# Altium integrated library Xilinx Spartan-IIE.IntLib: 126 symbols (part 17 of 22)
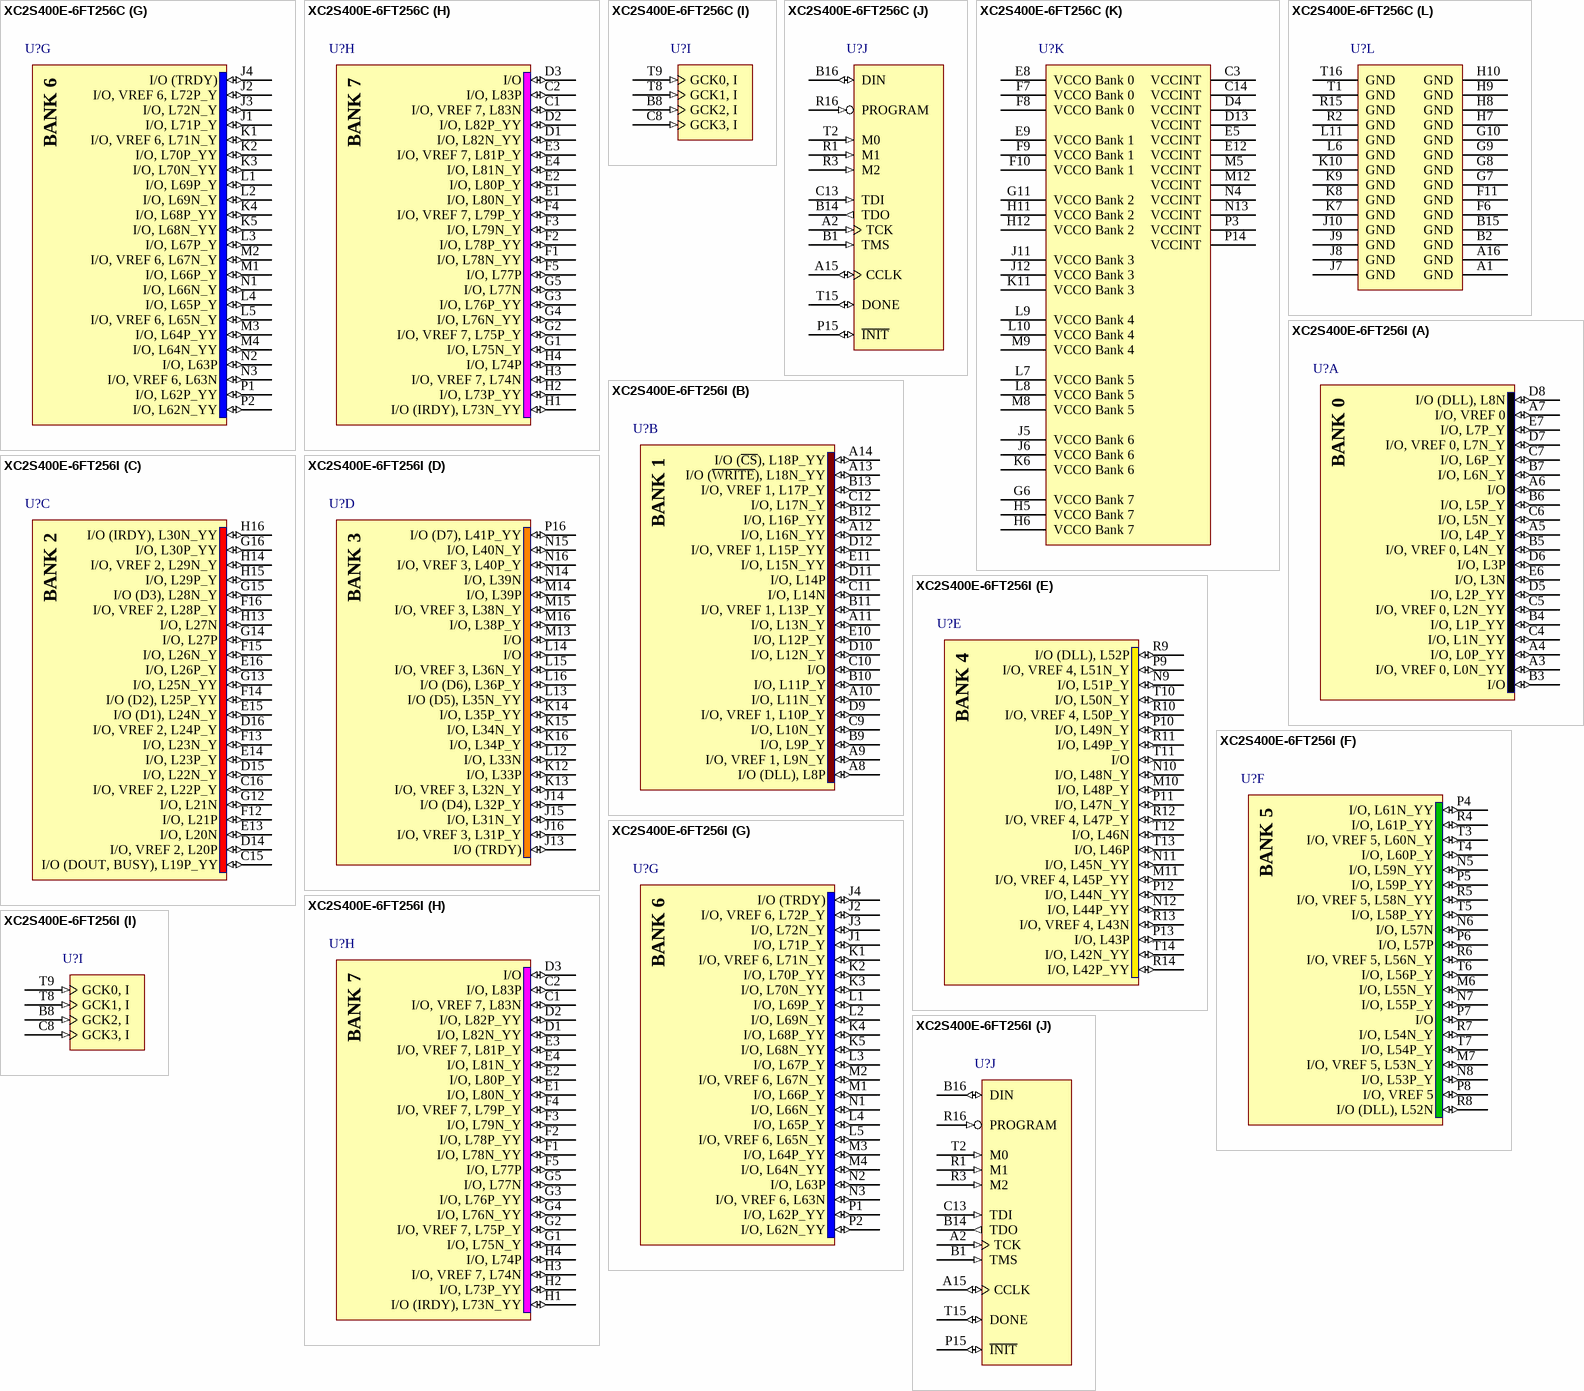
[diagram p133: symbols XC2S400E-6FT256C to XC2S400E-6FT256I]

## XC2S400E-6FT256C
designator U?
Spartan-IIE 1.8V FPGA, 256-Ball FTBGA, Standard Performance, Commercial Grade; Published: 17-Jan-2003; LatestRevisionDate: 13-Apr-2006; LatestRevisionNote: IPC-7351 Footprint Added.; DatasheetVersion: 28-Jul-2004; PackageVersion: ver1.2.1, Mar-2005; PackageReference: FT256; Publisher: Altium Limited; PackageDescription: 256-Ball Fine Pitch Thin Ball Grid Array 1.00 mm Pitch (FT256); Code_JEDEC: MS-034-AAF-1*; ComponentLink1Description: Manufacturer Link; ComponentLink1URL: http://www.xilinx.com/products/silicon_solutions/fpgas/spartan_series/spartan2e_fpgas/index.htm; ComponentLink2Description: Datasheet; ComponentLink2URL: http://direct.xilinx.com/bvdocs/publications/ds077.pdf
footprint FT256 (BGA, 256-Leads, Body 17x17mm, Pitch 1mm)
3D model XC2S400E-FT256 (256-Ball Fine Pitch Thin Ball Grid Array 1.00 mm Pitch (FT256))
signal-integrity model XC2S400E_FT256 (Spartan-IIE)
part A pins: A3 I/O, VREF 0, L0N_YY (io), A4 I/O, L0P_YY (io), A5 I/O, L4P_Y (io), A6 I/O (io), A7 I/O, VREF 0 (io), B3 I/O (io), B4 I/O, L1P_YY (io), B5 I/O, VREF 0, L4N_Y (io), B6 I/O, L5P_Y (io), B7 I/O, L6N_Y (io), C4 I/O, L1N_YY (io), C5 I/O, VREF 0, L2N_YY (io), C6 I/O, L5N_Y (io), C7 I/O, L6P_Y (io), D5 I/O, L2P_YY (io), D6 I/O, L3P (io), D7 I/O, VREF 0, L7N_Y (io), D8 I/O (DLL), L8N (io), E6 I/O, L3N (io), E7 I/O, L7P_Y (io)
part B pins: A8 I/O (DLL), L8P (io), A9 I/O, VREF 1, L9N_Y (io), A10 I/O, L11N_Y (io), A11 I/O, L13N_Y (io), A12 I/O, L16N_YY (io), A13 I/O (~{WRITE}), L18N_YY (io), A14 I/O (~{CS}), L18P_YY (io), B9 I/O, L9P_Y (io), B10 I/O, L11P_Y (io), B11 I/O, VREF 1, L13P_Y (io), B12 I/O, L16P_YY (io), B13 I/O, VREF 1, L17P_Y (io), C9 I/O, L10N_Y (io), C10 I/O (io), C11 I/O, L14N (io), C12 I/O, L17N_Y (io), D9 I/O, VREF 1, L10P_Y (io), D10 I/O, L12N_Y (io), D11 I/O, L14P (io), D12 I/O, VREF 1, L15P_YY (io), E10 I/O, L12P_Y (io), E11 I/O, L15N_YY (io)
part C pins: C15 I/O (DOUT, BUSY), L19P_YY (io), C16 I/O, VREF 2, L22P_Y (io), D14 I/O, VREF 2, L20P (io), D15 I/O, L22N_Y (io), D16 I/O, VREF 2, L24P_Y (io), E13 I/O, L20N (io), E14 I/O, L23P_Y (io), E15 I/O (D1), L24N_Y (io), E16 I/O, L26P_Y (io), F12 I/O, L21P (io), F13 I/O, L23N_Y (io), F14 I/O (D2), L25P_YY (io), F15 I/O, L26N_Y (io), F16 I/O, VREF 2, L28P_Y (io), G12 I/O, L21N (io), G13 I/O, L25N_YY (io), G14 I/O, L27P (io), G15 I/O (D3), L28N_Y (io), G16 I/O, L30P_YY (io), H13 I/O, L27N (io), H14 I/O, VREF 2, L29N_Y (io), H15 I/O, L29P_Y (io), H16 I/O (IRDY), L30N_YY (io)
part D pins: J13 I/O (TRDY) (io), J14 I/O (D4), L32P_Y (io), J15 I/O, L31N_Y (io), J16 I/O, VREF 3, L31P_Y (io), K12 I/O, L33P (io), K13 I/O, VREF 3, L32N_Y (io), K14 I/O, L35P_YY (io), K15 I/O, L34N_Y (io), K16 I/O, L34P_Y (io), L12 I/O, L33N (io), L13 I/O (D5), L35N_YY (io), L14 I/O (io), L15 I/O, VREF 3, L36N_Y (io), L16 I/O (D6), L36P_Y (io), M13 I/O (io), M14 I/O, L39P (io), M15 I/O, VREF 3, L38N_Y (io), M16 I/O, L38P_Y (io), N14 I/O, L39N (io), N15 I/O, L40N_Y (io), N16 I/O, VREF 3, L40P_Y (io), P16 I/O (D7), L41P_YY (io)
part E pins: M10 I/O, L48P_Y (io), M11 I/O, VREF 4, L45P_YY (io), N9 I/O, L51P_Y (io), N10 I/O, L48N_Y (io), N11 I/O, L45N_YY (io), N12 I/O, L44P_YY (io), P9 I/O, VREF 4, L51N_Y (io), P10 I/O, L49N_Y (io), P11 I/O, L47N_Y (io), P12 I/O, L44N_YY (io), P13 I/O, L43P (io), R9 I/O (DLL), L52P (io), R10 I/O, VREF 4, L50P_Y (io), R11 I/O, L49P_Y (io), R12 I/O, VREF 4, L47P_Y (io), R13 I/O, VREF 4, L43N (io), R14 I/O, L42P_YY (io), T10 I/O, L50N_Y (io), T11 I/O (io), T12 I/O, L46N (io), T13 I/O, L46P (io), T14 I/O, L42N_YY (io)
part F pins: M6 I/O, L55N_Y (io), M7 I/O, VREF 5, L53N_Y (io), N5 I/O, L59N_YY (io), N6 I/O, L57N (io), N7 I/O, L55P_Y (io), N8 I/O, L53P_Y (io), P4 I/O, L61N_YY (io), P5 I/O, L59P_YY (io), P6 I/O, L57P (io), P7 I/O (io), P8 I/O, VREF 5 (io), R4 I/O, L61P_YY (io), R5 I/O, VREF 5, L58N_YY (io), R6 I/O, VREF 5, L56N_Y (io), R7 I/O, L54N_Y (io), R8 I/O (DLL), L52N (io), T3 I/O, VREF 5, L60N_Y (io), T4 I/O, L60P_Y (io), T5 I/O, L58P_YY (io), T6 I/O, L56P_Y (io), T7 I/O, L54P_Y (io)
part G pins: J1 I/O, L71P_Y (io), J2 I/O, VREF 6, L72P_Y (io), J3 I/O, L72N_Y (io), J4 I/O (TRDY) (io), K1 I/O, VREF 6, L71N_Y (io), K2 I/O, L70P_YY (io), K3 I/O, L70N_YY (io), K4 I/O, L68P_YY (io), K5 I/O, L68N_YY (io), L1 I/O, L69P_Y (io), L2 I/O, L69N_Y (io), L3 I/O, L67P_Y (io), L4 I/O, L65P_Y (io), L5 I/O, VREF 6, L65N_Y (io), M1 I/O, L66P_Y (io), M2 I/O, VREF 6, L67N_Y (io), M3 I/O, L64P_YY (io), M4 I/O, L64N_YY (io), N1 I/O, L66N_Y (io), N2 I/O, L63P (io), N3 I/O, VREF 6, L63N (io), P1 I/O, L62P_YY (io), P2 I/O, L62N_YY (io)
part H pins: C1 I/O, VREF 7, L83N (io), C2 I/O, L83P (io), D1 I/O, L82N_YY (io), D2 I/O, L82P_YY (io), D3 I/O (io), E1 I/O, L80N_Y (io), E2 I/O, L80P_Y (io), E3 I/O, VREF 7, L81P_Y (io), E4 I/O, L81N_Y (io), F1 I/O, L78N_YY (io), F2 I/O, L78P_YY (io), F3 I/O, L79N_Y (io), F4 I/O, VREF 7, L79P_Y (io), F5 I/O, L77P (io), G1 I/O, L75N_Y (io), G2 I/O, VREF 7, L75P_Y (io), G3 I/O, L76P_YY (io), G4 I/O, L76N_YY (io), G5 I/O, L77N (io), H1 I/O (IRDY), L73N_YY (io), H2 I/O, L73P_YY (io), H3 I/O, VREF 7, L74N (io), H4 I/O, L74P (io)
part I pins: B8 GCK2, I (in), C8 GCK3, I (in), T8 GCK1, I (in), T9 GCK0, I (in)
part J pins: A2 TCK (in), A15 CCLK (io), B1 TMS (in), B14 TDO (out), B16 DIN (io) "I/O (DIN, D0), L19N_YY", C13 TDI (in), P15 ~{INIT} (io) "I/O (I\N\I\T\), L41N_YY", R1 M1 (in), R3 M2 (in), R16 PROGRAM (in), T2 M0 (in), T15 DONE (io)
part K pins: C3 VCCINT (power), C14 VCCINT (power), D4 VCCINT (power), D13 VCCINT (power), E5 VCCINT (power), E8 VCCO Bank 0 (power), E9 VCCO Bank 1 (power), E12 VCCINT (power), F7 VCCO Bank 0 (power), F8 VCCO Bank 0 (power), F9 VCCO Bank 1 (power), F10 VCCO Bank 1 (power), G6 VCCO Bank 7 (power), G11 VCCO Bank 2 (power), H5 VCCO Bank 7 (power), H6 VCCO Bank 7 (power), H11 VCCO Bank 2 (power), H12 VCCO Bank 2 (power), J5 VCCO Bank 6 (power), J6 VCCO Bank 6 (power), J11 VCCO Bank 3 (power), J12 VCCO Bank 3 (power), K6 VCCO Bank 6 (power), K11 VCCO Bank 3 (power), L7 VCCO Bank 5 (power), L8 VCCO Bank 5 (power), L9 VCCO Bank 4 (power), L10 VCCO Bank 4 (power), M5 VCCINT (power), M8 VCCO Bank 5 (power), M9 VCCO Bank 4 (power), M12 VCCINT (power), N4 VCCINT (power), N13 VCCINT (power), P3 VCCINT (power), P14 VCCINT (power)
part L pins: A1 GND (power), A16 GND (power), B2 GND (power), B15 GND (power), F6 GND (power), F11 GND (power), G7 GND (power), G8 GND (power), G9 GND (power), G10 GND (power), H7 GND (power), H8 GND (power), H9 GND (power), H10 GND (power), J7 GND (power), J8 GND (power), J9 GND (power), J10 GND (power), K7 GND (power), K8 GND (power), K9 GND (power), K10 GND (power), L6 GND (power), L11 GND (power), R2 GND (power), R15 GND (power), T1 GND (power), T16 GND (power)
part A text: BANK 0
part B text: BANK 1
part C text: BANK 2
part D text: BANK 3
part E text: BANK 4
part F text: BANK 5
part G text: BANK 6
part H text: BANK 7

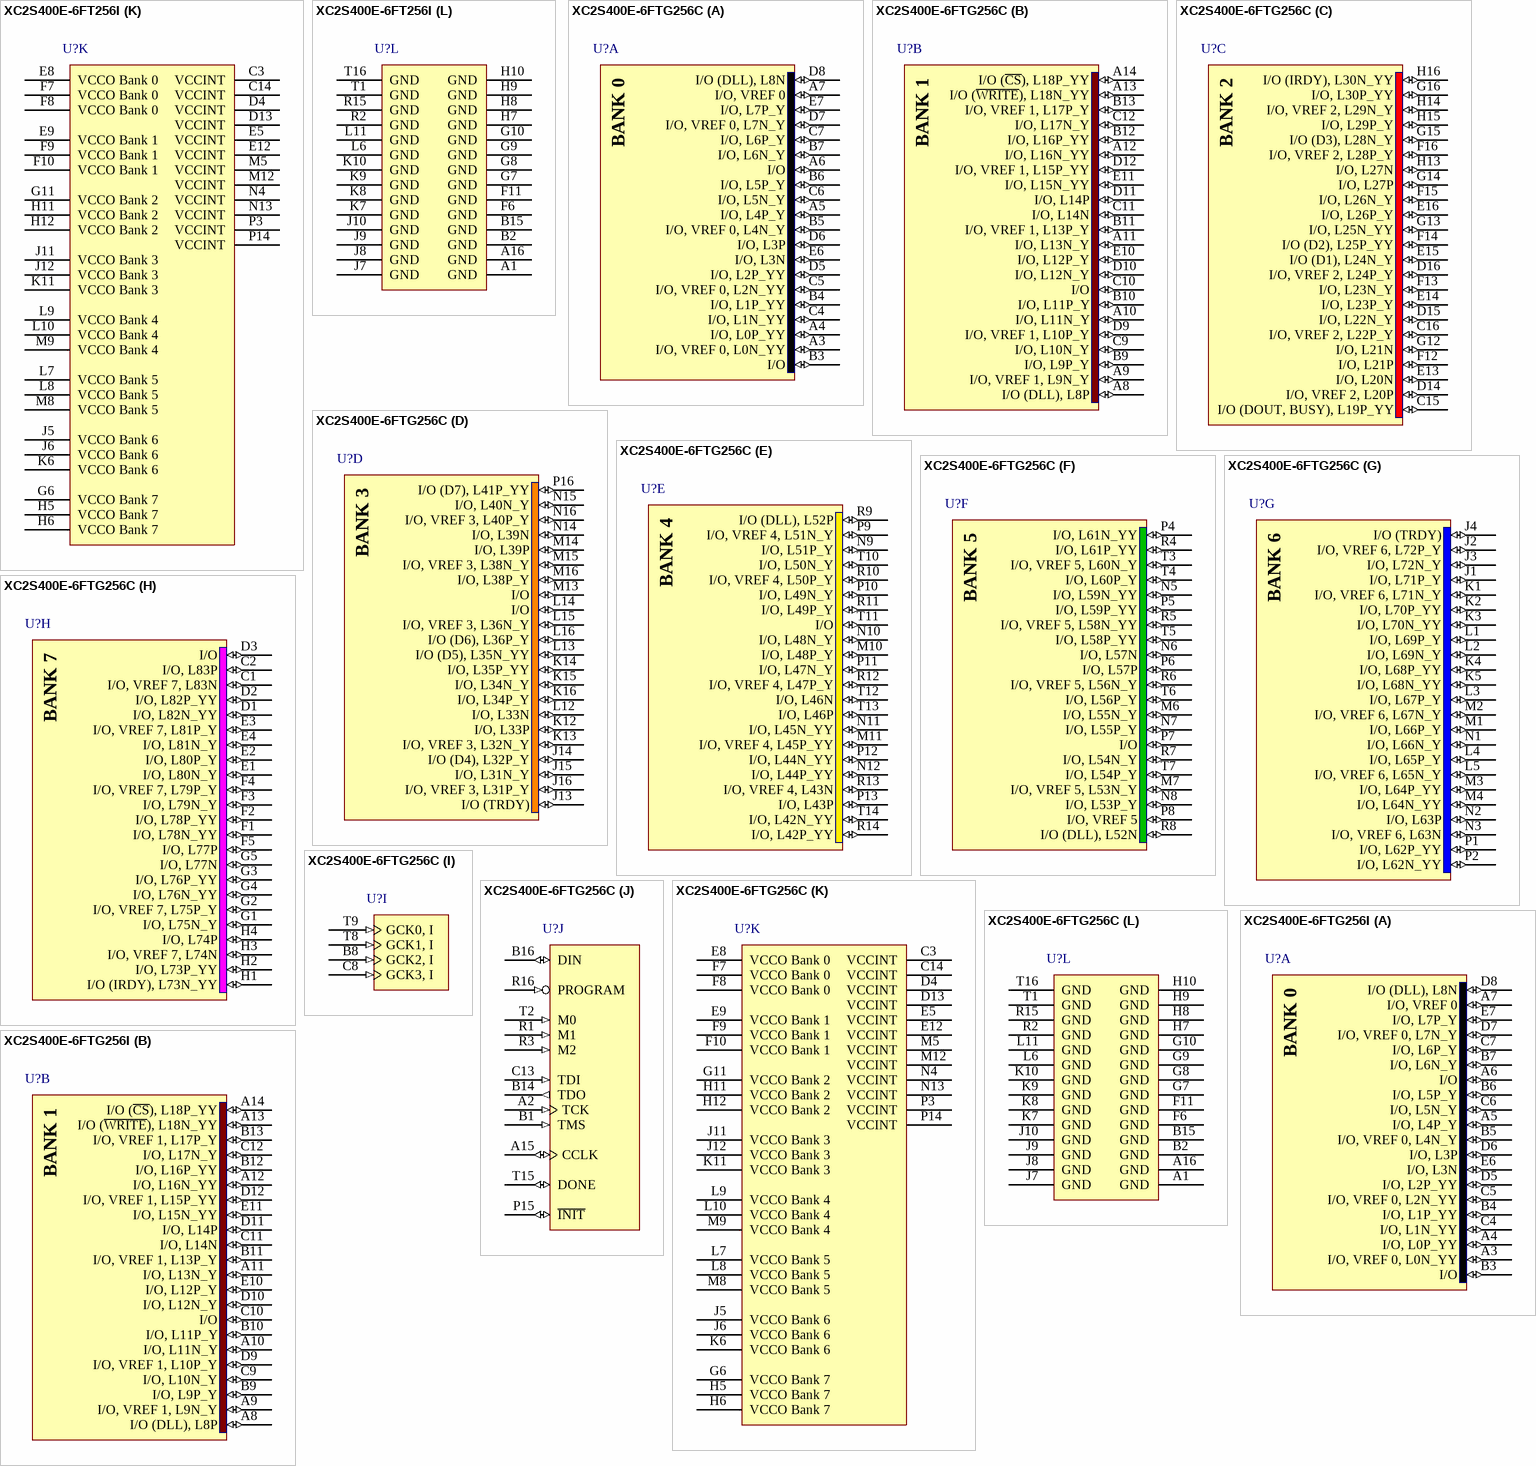
[diagram p89: symbols XC2S400E-6FT256I to XC2S400E-6FTG256I]

## XC2S400E-6FT256I
designator U?
Spartan-IIE 1.8V FPGA, 256-Ball FTBGA, Standard Performance, Industrial Grade; Published: 17-Jan-2003; LatestRevisionDate: 13-Apr-2006; LatestRevisionNote: IPC-7351 Footprint Added.; DatasheetVersion: 28-Jul-2004; PackageVersion: ver1.2.1, Mar-2005; PackageReference: FT256; Publisher: Altium Limited; PackageDescription: 256-Ball Fine Pitch Thin Ball Grid Array 1.00 mm Pitch (FT256); Code_JEDEC: MS-034-AAF-1*; ComponentLink1Description: Manufacturer Link; ComponentLink1URL: http://www.xilinx.com/products/silicon_solutions/fpgas/spartan_series/spartan2e_fpgas/index.htm; ComponentLink2Description: Datasheet; ComponentLink2URL: http://direct.xilinx.com/bvdocs/publications/ds077.pdf
footprint FT256 (BGA, 256-Leads, Body 17x17mm, Pitch 1mm)
3D model XC2S400E-FT256 (256-Ball Fine Pitch Thin Ball Grid Array 1.00 mm Pitch (FT256))
signal-integrity model XC2S400E_FT256 (Spartan-IIE)
part A pins: A3 I/O, VREF 0, L0N_YY (io), A4 I/O, L0P_YY (io), A5 I/O, L4P_Y (io), A6 I/O (io), A7 I/O, VREF 0 (io), B3 I/O (io), B4 I/O, L1P_YY (io), B5 I/O, VREF 0, L4N_Y (io), B6 I/O, L5P_Y (io), B7 I/O, L6N_Y (io), C4 I/O, L1N_YY (io), C5 I/O, VREF 0, L2N_YY (io), C6 I/O, L5N_Y (io), C7 I/O, L6P_Y (io), D5 I/O, L2P_YY (io), D6 I/O, L3P (io), D7 I/O, VREF 0, L7N_Y (io), D8 I/O (DLL), L8N (io), E6 I/O, L3N (io), E7 I/O, L7P_Y (io)
part B pins: A8 I/O (DLL), L8P (io), A9 I/O, VREF 1, L9N_Y (io), A10 I/O, L11N_Y (io), A11 I/O, L13N_Y (io), A12 I/O, L16N_YY (io), A13 I/O (~{WRITE}), L18N_YY (io), A14 I/O (~{CS}), L18P_YY (io), B9 I/O, L9P_Y (io), B10 I/O, L11P_Y (io), B11 I/O, VREF 1, L13P_Y (io), B12 I/O, L16P_YY (io), B13 I/O, VREF 1, L17P_Y (io), C9 I/O, L10N_Y (io), C10 I/O (io), C11 I/O, L14N (io), C12 I/O, L17N_Y (io), D9 I/O, VREF 1, L10P_Y (io), D10 I/O, L12N_Y (io), D11 I/O, L14P (io), D12 I/O, VREF 1, L15P_YY (io), E10 I/O, L12P_Y (io), E11 I/O, L15N_YY (io)
part C pins: C15 I/O (DOUT, BUSY), L19P_YY (io), C16 I/O, VREF 2, L22P_Y (io), D14 I/O, VREF 2, L20P (io), D15 I/O, L22N_Y (io), D16 I/O, VREF 2, L24P_Y (io), E13 I/O, L20N (io), E14 I/O, L23P_Y (io), E15 I/O (D1), L24N_Y (io), E16 I/O, L26P_Y (io), F12 I/O, L21P (io), F13 I/O, L23N_Y (io), F14 I/O (D2), L25P_YY (io), F15 I/O, L26N_Y (io), F16 I/O, VREF 2, L28P_Y (io), G12 I/O, L21N (io), G13 I/O, L25N_YY (io), G14 I/O, L27P (io), G15 I/O (D3), L28N_Y (io), G16 I/O, L30P_YY (io), H13 I/O, L27N (io), H14 I/O, VREF 2, L29N_Y (io), H15 I/O, L29P_Y (io), H16 I/O (IRDY), L30N_YY (io)
part D pins: J13 I/O (TRDY) (io), J14 I/O (D4), L32P_Y (io), J15 I/O, L31N_Y (io), J16 I/O, VREF 3, L31P_Y (io), K12 I/O, L33P (io), K13 I/O, VREF 3, L32N_Y (io), K14 I/O, L35P_YY (io), K15 I/O, L34N_Y (io), K16 I/O, L34P_Y (io), L12 I/O, L33N (io), L13 I/O (D5), L35N_YY (io), L14 I/O (io), L15 I/O, VREF 3, L36N_Y (io), L16 I/O (D6), L36P_Y (io), M13 I/O (io), M14 I/O, L39P (io), M15 I/O, VREF 3, L38N_Y (io), M16 I/O, L38P_Y (io), N14 I/O, L39N (io), N15 I/O, L40N_Y (io), N16 I/O, VREF 3, L40P_Y (io), P16 I/O (D7), L41P_YY (io)
part E pins: M10 I/O, L48P_Y (io), M11 I/O, VREF 4, L45P_YY (io), N9 I/O, L51P_Y (io), N10 I/O, L48N_Y (io), N11 I/O, L45N_YY (io), N12 I/O, L44P_YY (io), P9 I/O, VREF 4, L51N_Y (io), P10 I/O, L49N_Y (io), P11 I/O, L47N_Y (io), P12 I/O, L44N_YY (io), P13 I/O, L43P (io), R9 I/O (DLL), L52P (io), R10 I/O, VREF 4, L50P_Y (io), R11 I/O, L49P_Y (io), R12 I/O, VREF 4, L47P_Y (io), R13 I/O, VREF 4, L43N (io), R14 I/O, L42P_YY (io), T10 I/O, L50N_Y (io), T11 I/O (io), T12 I/O, L46N (io), T13 I/O, L46P (io), T14 I/O, L42N_YY (io)
part F pins: M6 I/O, L55N_Y (io), M7 I/O, VREF 5, L53N_Y (io), N5 I/O, L59N_YY (io), N6 I/O, L57N (io), N7 I/O, L55P_Y (io), N8 I/O, L53P_Y (io), P4 I/O, L61N_YY (io), P5 I/O, L59P_YY (io), P6 I/O, L57P (io), P7 I/O (io), P8 I/O, VREF 5 (io), R4 I/O, L61P_YY (io), R5 I/O, VREF 5, L58N_YY (io), R6 I/O, VREF 5, L56N_Y (io), R7 I/O, L54N_Y (io), R8 I/O (DLL), L52N (io), T3 I/O, VREF 5, L60N_Y (io), T4 I/O, L60P_Y (io), T5 I/O, L58P_YY (io), T6 I/O, L56P_Y (io), T7 I/O, L54P_Y (io)
part G pins: J1 I/O, L71P_Y (io), J2 I/O, VREF 6, L72P_Y (io), J3 I/O, L72N_Y (io), J4 I/O (TRDY) (io), K1 I/O, VREF 6, L71N_Y (io), K2 I/O, L70P_YY (io), K3 I/O, L70N_YY (io), K4 I/O, L68P_YY (io), K5 I/O, L68N_YY (io), L1 I/O, L69P_Y (io), L2 I/O, L69N_Y (io), L3 I/O, L67P_Y (io), L4 I/O, L65P_Y (io), L5 I/O, VREF 6, L65N_Y (io), M1 I/O, L66P_Y (io), M2 I/O, VREF 6, L67N_Y (io), M3 I/O, L64P_YY (io), M4 I/O, L64N_YY (io), N1 I/O, L66N_Y (io), N2 I/O, L63P (io), N3 I/O, VREF 6, L63N (io), P1 I/O, L62P_YY (io), P2 I/O, L62N_YY (io)
part H pins: C1 I/O, VREF 7, L83N (io), C2 I/O, L83P (io), D1 I/O, L82N_YY (io), D2 I/O, L82P_YY (io), D3 I/O (io), E1 I/O, L80N_Y (io), E2 I/O, L80P_Y (io), E3 I/O, VREF 7, L81P_Y (io), E4 I/O, L81N_Y (io), F1 I/O, L78N_YY (io), F2 I/O, L78P_YY (io), F3 I/O, L79N_Y (io), F4 I/O, VREF 7, L79P_Y (io), F5 I/O, L77P (io), G1 I/O, L75N_Y (io), G2 I/O, VREF 7, L75P_Y (io), G3 I/O, L76P_YY (io), G4 I/O, L76N_YY (io), G5 I/O, L77N (io), H1 I/O (IRDY), L73N_YY (io), H2 I/O, L73P_YY (io), H3 I/O, VREF 7, L74N (io), H4 I/O, L74P (io)
part I pins: B8 GCK2, I (in), C8 GCK3, I (in), T8 GCK1, I (in), T9 GCK0, I (in)
part J pins: A2 TCK (in), A15 CCLK (io), B1 TMS (in), B14 TDO (out), B16 DIN (io) "I/O (DIN, D0), L19N_YY", C13 TDI (in), P15 ~{INIT} (io) "I/O (I\N\I\T\), L41N_YY", R1 M1 (in), R3 M2 (in), R16 PROGRAM (in), T2 M0 (in), T15 DONE (io)
part K pins: C3 VCCINT (power), C14 VCCINT (power), D4 VCCINT (power), D13 VCCINT (power), E5 VCCINT (power), E8 VCCO Bank 0 (power), E9 VCCO Bank 1 (power), E12 VCCINT (power), F7 VCCO Bank 0 (power), F8 VCCO Bank 0 (power), F9 VCCO Bank 1 (power), F10 VCCO Bank 1 (power), G6 VCCO Bank 7 (power), G11 VCCO Bank 2 (power), H5 VCCO Bank 7 (power), H6 VCCO Bank 7 (power), H11 VCCO Bank 2 (power), H12 VCCO Bank 2 (power), J5 VCCO Bank 6 (power), J6 VCCO Bank 6 (power), J11 VCCO Bank 3 (power), J12 VCCO Bank 3 (power), K6 VCCO Bank 6 (power), K11 VCCO Bank 3 (power), L7 VCCO Bank 5 (power), L8 VCCO Bank 5 (power), L9 VCCO Bank 4 (power), L10 VCCO Bank 4 (power), M5 VCCINT (power), M8 VCCO Bank 5 (power), M9 VCCO Bank 4 (power), M12 VCCINT (power), N4 VCCINT (power), N13 VCCINT (power), P3 VCCINT (power), P14 VCCINT (power)
part L pins: A1 GND (power), A16 GND (power), B2 GND (power), B15 GND (power), F6 GND (power), F11 GND (power), G7 GND (power), G8 GND (power), G9 GND (power), G10 GND (power), H7 GND (power), H8 GND (power), H9 GND (power), H10 GND (power), J7 GND (power), J8 GND (power), J9 GND (power), J10 GND (power), K7 GND (power), K8 GND (power), K9 GND (power), K10 GND (power), L6 GND (power), L11 GND (power), R2 GND (power), R15 GND (power), T1 GND (power), T16 GND (power)
part A text: BANK 0
part B text: BANK 1
part C text: BANK 2
part D text: BANK 3
part E text: BANK 4
part F text: BANK 5
part G text: BANK 6
part H text: BANK 7

## XC2S400E-6FTG256C
designator U?
Spartan-IIE 1.8V FPGA, 256-Ball FTBGA, Standard Performance, Commercial Grade, Pb-Free; Published: 2-Mar-2006; DatasheetVersion: 28-Jul-2004; PackageVersion: ver1.2.1, Mar-2005; PackageReference: FTG256; Publisher: Altium Limited; PackageDescription: 256-Ball Fine Pitch Thin Ball Grid Array 1.00 mm Pitch (FTG256) - Pb-Free; Code_JEDEC: MS-034-AAF-1*; ComponentLink1Description: Manufacturer Link; ComponentLink1URL: http://www.xilinx.com/products/silicon_solutions/fpgas/spartan_series/spartan2e_fpgas/index.htm; ComponentLink2Description: Datasheet; ComponentLink2URL: http://direct.xilinx.com/bvdocs/publications/ds077.pdf
footprint FTG256 (BGA, 256-Leads, Body 17x17mm, Pitch 1mm)
3D model XC2S400E-FT256 (256-Ball Fine Pitch Thin Ball Grid Array 1.00 mm Pitch (FTG256) - Pb-Free)
signal-integrity model XC2S400E_FTG256 (Spartan-IIE)
part A pins: A3 I/O, VREF 0, L0N_YY (io), A4 I/O, L0P_YY (io), A5 I/O, L4P_Y (io), A6 I/O (io), A7 I/O, VREF 0 (io), B3 I/O (io), B4 I/O, L1P_YY (io), B5 I/O, VREF 0, L4N_Y (io), B6 I/O, L5P_Y (io), B7 I/O, L6N_Y (io), C4 I/O, L1N_YY (io), C5 I/O, VREF 0, L2N_YY (io), C6 I/O, L5N_Y (io), C7 I/O, L6P_Y (io), D5 I/O, L2P_YY (io), D6 I/O, L3P (io), D7 I/O, VREF 0, L7N_Y (io), D8 I/O (DLL), L8N (io), E6 I/O, L3N (io), E7 I/O, L7P_Y (io)
part B pins: A8 I/O (DLL), L8P (io), A9 I/O, VREF 1, L9N_Y (io), A10 I/O, L11N_Y (io), A11 I/O, L13N_Y (io), A12 I/O, L16N_YY (io), A13 I/O (~{WRITE}), L18N_YY (io), A14 I/O (~{CS}), L18P_YY (io), B9 I/O, L9P_Y (io), B10 I/O, L11P_Y (io), B11 I/O, VREF 1, L13P_Y (io), B12 I/O, L16P_YY (io), B13 I/O, VREF 1, L17P_Y (io), C9 I/O, L10N_Y (io), C10 I/O (io), C11 I/O, L14N (io), C12 I/O, L17N_Y (io), D9 I/O, VREF 1, L10P_Y (io), D10 I/O, L12N_Y (io), D11 I/O, L14P (io), D12 I/O, VREF 1, L15P_YY (io), E10 I/O, L12P_Y (io), E11 I/O, L15N_YY (io)
part C pins: C15 I/O (DOUT, BUSY), L19P_YY (io), C16 I/O, VREF 2, L22P_Y (io), D14 I/O, VREF 2, L20P (io), D15 I/O, L22N_Y (io), D16 I/O, VREF 2, L24P_Y (io), E13 I/O, L20N (io), E14 I/O, L23P_Y (io), E15 I/O (D1), L24N_Y (io), E16 I/O, L26P_Y (io), F12 I/O, L21P (io), F13 I/O, L23N_Y (io), F14 I/O (D2), L25P_YY (io), F15 I/O, L26N_Y (io), F16 I/O, VREF 2, L28P_Y (io), G12 I/O, L21N (io), G13 I/O, L25N_YY (io), G14 I/O, L27P (io), G15 I/O (D3), L28N_Y (io), G16 I/O, L30P_YY (io), H13 I/O, L27N (io), H14 I/O, VREF 2, L29N_Y (io), H15 I/O, L29P_Y (io), H16 I/O (IRDY), L30N_YY (io)
part D pins: J13 I/O (TRDY) (io), J14 I/O (D4), L32P_Y (io), J15 I/O, L31N_Y (io), J16 I/O, VREF 3, L31P_Y (io), K12 I/O, L33P (io), K13 I/O, VREF 3, L32N_Y (io), K14 I/O, L35P_YY (io), K15 I/O, L34N_Y (io), K16 I/O, L34P_Y (io), L12 I/O, L33N (io), L13 I/O (D5), L35N_YY (io), L14 I/O (io), L15 I/O, VREF 3, L36N_Y (io), L16 I/O (D6), L36P_Y (io), M13 I/O (io), M14 I/O, L39P (io), M15 I/O, VREF 3, L38N_Y (io), M16 I/O, L38P_Y (io), N14 I/O, L39N (io), N15 I/O, L40N_Y (io), N16 I/O, VREF 3, L40P_Y (io), P16 I/O (D7), L41P_YY (io)
part E pins: M10 I/O, L48P_Y (io), M11 I/O, VREF 4, L45P_YY (io), N9 I/O, L51P_Y (io), N10 I/O, L48N_Y (io), N11 I/O, L45N_YY (io), N12 I/O, L44P_YY (io), P9 I/O, VREF 4, L51N_Y (io), P10 I/O, L49N_Y (io), P11 I/O, L47N_Y (io), P12 I/O, L44N_YY (io), P13 I/O, L43P (io), R9 I/O (DLL), L52P (io), R10 I/O, VREF 4, L50P_Y (io), R11 I/O, L49P_Y (io), R12 I/O, VREF 4, L47P_Y (io), R13 I/O, VREF 4, L43N (io), R14 I/O, L42P_YY (io), T10 I/O, L50N_Y (io), T11 I/O (io), T12 I/O, L46N (io), T13 I/O, L46P (io), T14 I/O, L42N_YY (io)
part F pins: M6 I/O, L55N_Y (io), M7 I/O, VREF 5, L53N_Y (io), N5 I/O, L59N_YY (io), N6 I/O, L57N (io), N7 I/O, L55P_Y (io), N8 I/O, L53P_Y (io), P4 I/O, L61N_YY (io), P5 I/O, L59P_YY (io), P6 I/O, L57P (io), P7 I/O (io), P8 I/O, VREF 5 (io), R4 I/O, L61P_YY (io), R5 I/O, VREF 5, L58N_YY (io), R6 I/O, VREF 5, L56N_Y (io), R7 I/O, L54N_Y (io), R8 I/O (DLL), L52N (io), T3 I/O, VREF 5, L60N_Y (io), T4 I/O, L60P_Y (io), T5 I/O, L58P_YY (io), T6 I/O, L56P_Y (io), T7 I/O, L54P_Y (io)
part G pins: J1 I/O, L71P_Y (io), J2 I/O, VREF 6, L72P_Y (io), J3 I/O, L72N_Y (io), J4 I/O (TRDY) (io), K1 I/O, VREF 6, L71N_Y (io), K2 I/O, L70P_YY (io), K3 I/O, L70N_YY (io), K4 I/O, L68P_YY (io), K5 I/O, L68N_YY (io), L1 I/O, L69P_Y (io), L2 I/O, L69N_Y (io), L3 I/O, L67P_Y (io), L4 I/O, L65P_Y (io), L5 I/O, VREF 6, L65N_Y (io), M1 I/O, L66P_Y (io), M2 I/O, VREF 6, L67N_Y (io), M3 I/O, L64P_YY (io), M4 I/O, L64N_YY (io), N1 I/O, L66N_Y (io), N2 I/O, L63P (io), N3 I/O, VREF 6, L63N (io), P1 I/O, L62P_YY (io), P2 I/O, L62N_YY (io)
part H pins: C1 I/O, VREF 7, L83N (io), C2 I/O, L83P (io), D1 I/O, L82N_YY (io), D2 I/O, L82P_YY (io), D3 I/O (io), E1 I/O, L80N_Y (io), E2 I/O, L80P_Y (io), E3 I/O, VREF 7, L81P_Y (io), E4 I/O, L81N_Y (io), F1 I/O, L78N_YY (io), F2 I/O, L78P_YY (io), F3 I/O, L79N_Y (io), F4 I/O, VREF 7, L79P_Y (io), F5 I/O, L77P (io), G1 I/O, L75N_Y (io), G2 I/O, VREF 7, L75P_Y (io), G3 I/O, L76P_YY (io), G4 I/O, L76N_YY (io), G5 I/O, L77N (io), H1 I/O (IRDY), L73N_YY (io), H2 I/O, L73P_YY (io), H3 I/O, VREF 7, L74N (io), H4 I/O, L74P (io)
part I pins: B8 GCK2, I (in), C8 GCK3, I (in), T8 GCK1, I (in), T9 GCK0, I (in)
part J pins: A2 TCK (in), A15 CCLK (io), B1 TMS (in), B14 TDO (out), B16 DIN (io) "I/O (DIN, D0), L19N_YY", C13 TDI (in), P15 ~{INIT} (io) "I/O (I\N\I\T\), L41N_YY", R1 M1 (in), R3 M2 (in), R16 PROGRAM (in), T2 M0 (in), T15 DONE (io)
part K pins: C3 VCCINT (power), C14 VCCINT (power), D4 VCCINT (power), D13 VCCINT (power), E5 VCCINT (power), E8 VCCO Bank 0 (power), E9 VCCO Bank 1 (power), E12 VCCINT (power), F7 VCCO Bank 0 (power), F8 VCCO Bank 0 (power), F9 VCCO Bank 1 (power), F10 VCCO Bank 1 (power), G6 VCCO Bank 7 (power), G11 VCCO Bank 2 (power), H5 VCCO Bank 7 (power), H6 VCCO Bank 7 (power), H11 VCCO Bank 2 (power), H12 VCCO Bank 2 (power), J5 VCCO Bank 6 (power), J6 VCCO Bank 6 (power), J11 VCCO Bank 3 (power), J12 VCCO Bank 3 (power), K6 VCCO Bank 6 (power), K11 VCCO Bank 3 (power), L7 VCCO Bank 5 (power), L8 VCCO Bank 5 (power), L9 VCCO Bank 4 (power), L10 VCCO Bank 4 (power), M5 VCCINT (power), M8 VCCO Bank 5 (power), M9 VCCO Bank 4 (power), M12 VCCINT (power), N4 VCCINT (power), N13 VCCINT (power), P3 VCCINT (power), P14 VCCINT (power)
part L pins: A1 GND (power), A16 GND (power), B2 GND (power), B15 GND (power), F6 GND (power), F11 GND (power), G7 GND (power), G8 GND (power), G9 GND (power), G10 GND (power), H7 GND (power), H8 GND (power), H9 GND (power), H10 GND (power), J7 GND (power), J8 GND (power), J9 GND (power), J10 GND (power), K7 GND (power), K8 GND (power), K9 GND (power), K10 GND (power), L6 GND (power), L11 GND (power), R2 GND (power), R15 GND (power), T1 GND (power), T16 GND (power)
part A text: BANK 0
part B text: BANK 1
part C text: BANK 2
part D text: BANK 3
part E text: BANK 4
part F text: BANK 5
part G text: BANK 6
part H text: BANK 7

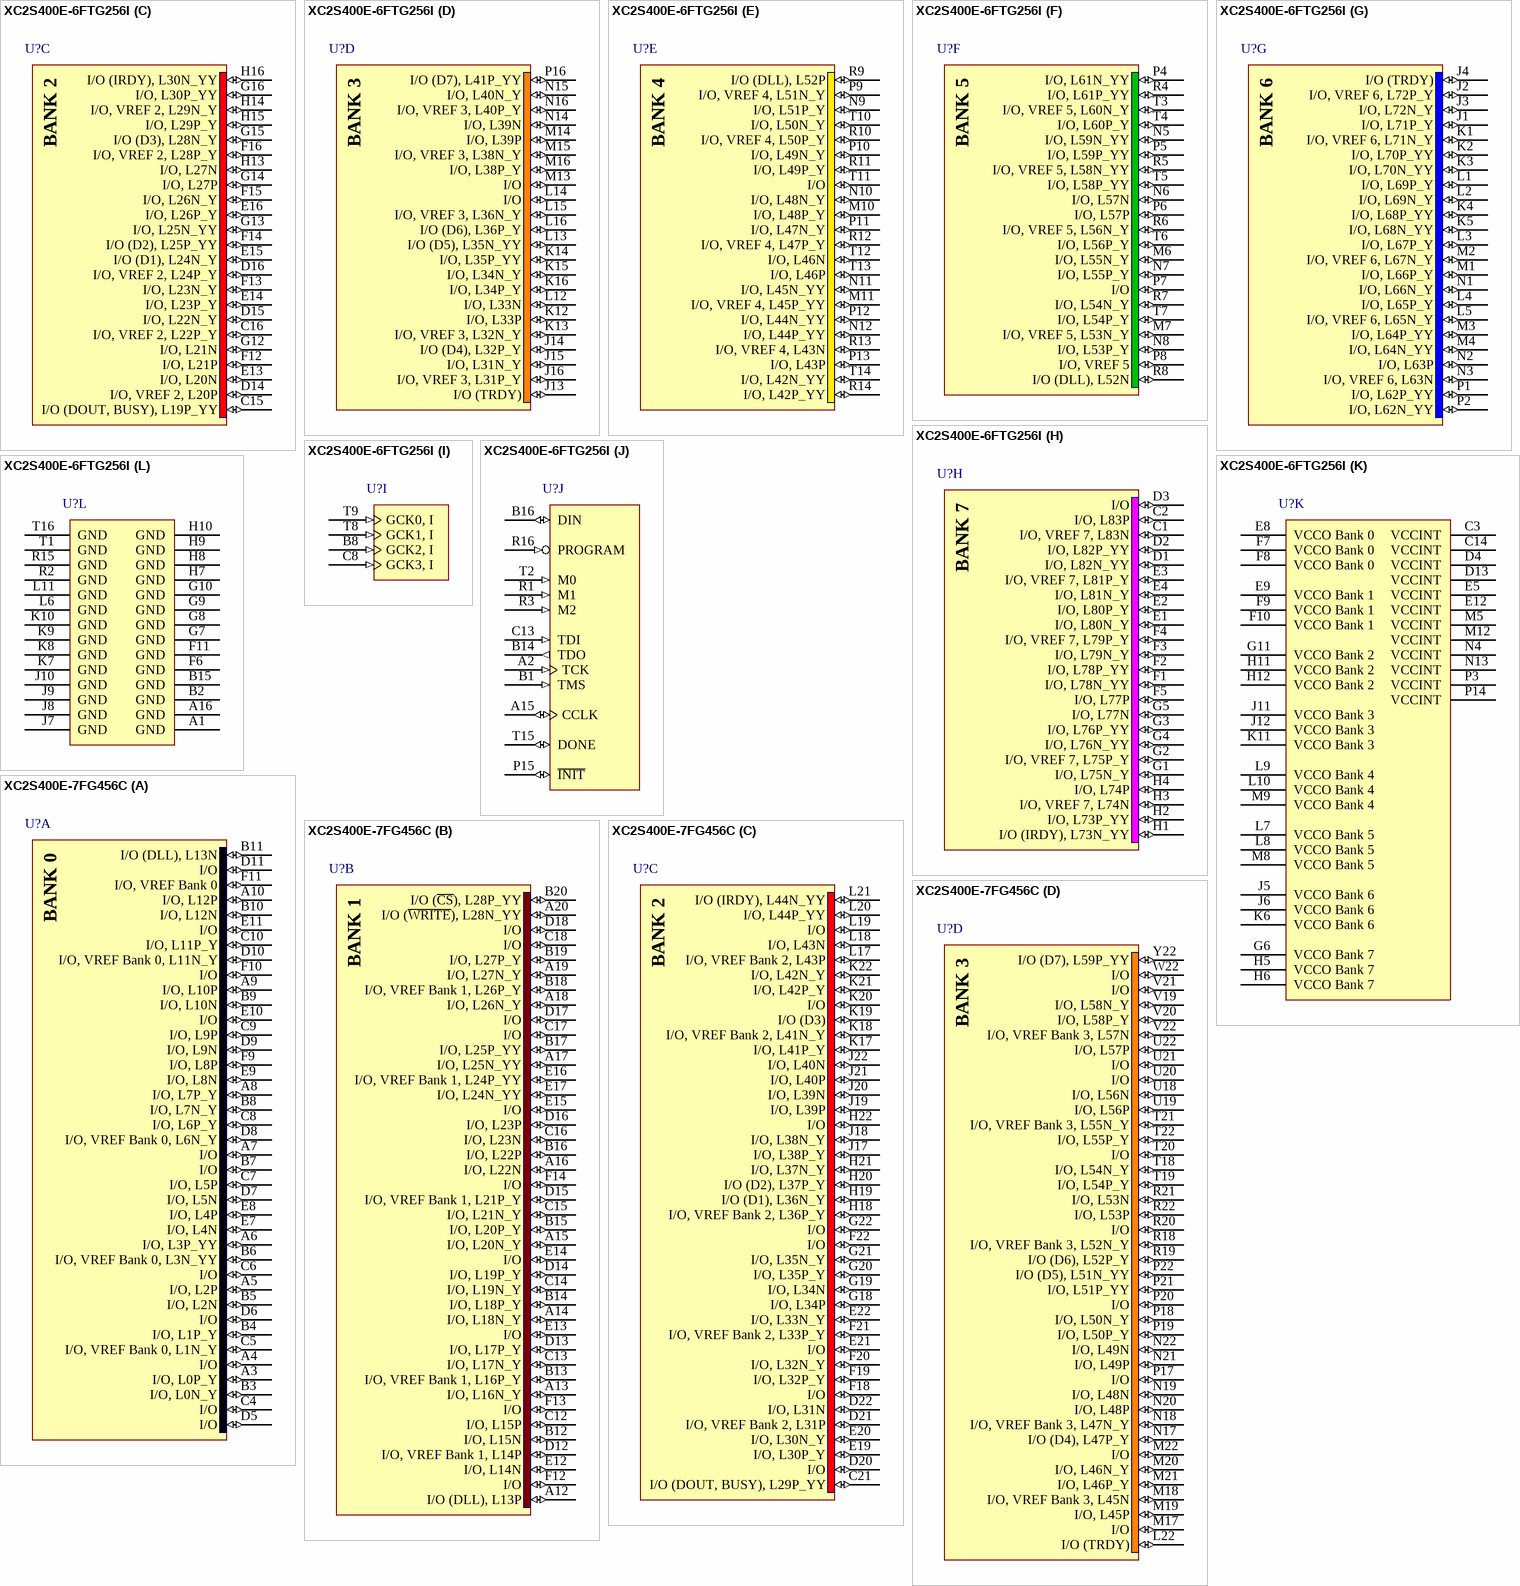
[diagram p90: symbols XC2S400E-6FTG256I to XC2S400E-7FG456C]

## XC2S400E-6FTG256I
designator U?
Spartan-IIE 1.8V FPGA, 256-Ball FTBGA, Standard Performance, Industrial Grade, Pb-Free; Published: 2-Mar-2006; DatasheetVersion: 28-Jul-2004; PackageVersion: ver1.2.1, Mar-2005; PackageReference: FTG256; Publisher: Altium Limited; PackageDescription: 256-Ball Fine Pitch Thin Ball Grid Array 1.00 mm Pitch (FTG256) - Pb-Free; Code_JEDEC: MS-034-AAF-1*; ComponentLink1Description: Manufacturer Link; ComponentLink1URL: http://www.xilinx.com/products/silicon_solutions/fpgas/spartan_series/spartan2e_fpgas/index.htm; ComponentLink2Description: Datasheet; ComponentLink2URL: http://direct.xilinx.com/bvdocs/publications/ds077.pdf
footprint FTG256 (BGA, 256-Leads, Body 17x17mm, Pitch 1mm)
3D model XC2S400E-FT256 (256-Ball Fine Pitch Thin Ball Grid Array 1.00 mm Pitch (FTG256) - Pb-Free)
signal-integrity model XC2S400E_FTG256 (Spartan-IIE)
part A pins: A3 I/O, VREF 0, L0N_YY (io), A4 I/O, L0P_YY (io), A5 I/O, L4P_Y (io), A6 I/O (io), A7 I/O, VREF 0 (io), B3 I/O (io), B4 I/O, L1P_YY (io), B5 I/O, VREF 0, L4N_Y (io), B6 I/O, L5P_Y (io), B7 I/O, L6N_Y (io), C4 I/O, L1N_YY (io), C5 I/O, VREF 0, L2N_YY (io), C6 I/O, L5N_Y (io), C7 I/O, L6P_Y (io), D5 I/O, L2P_YY (io), D6 I/O, L3P (io), D7 I/O, VREF 0, L7N_Y (io), D8 I/O (DLL), L8N (io), E6 I/O, L3N (io), E7 I/O, L7P_Y (io)
part B pins: A8 I/O (DLL), L8P (io), A9 I/O, VREF 1, L9N_Y (io), A10 I/O, L11N_Y (io), A11 I/O, L13N_Y (io), A12 I/O, L16N_YY (io), A13 I/O (~{WRITE}), L18N_YY (io), A14 I/O (~{CS}), L18P_YY (io), B9 I/O, L9P_Y (io), B10 I/O, L11P_Y (io), B11 I/O, VREF 1, L13P_Y (io), B12 I/O, L16P_YY (io), B13 I/O, VREF 1, L17P_Y (io), C9 I/O, L10N_Y (io), C10 I/O (io), C11 I/O, L14N (io), C12 I/O, L17N_Y (io), D9 I/O, VREF 1, L10P_Y (io), D10 I/O, L12N_Y (io), D11 I/O, L14P (io), D12 I/O, VREF 1, L15P_YY (io), E10 I/O, L12P_Y (io), E11 I/O, L15N_YY (io)
part C pins: C15 I/O (DOUT, BUSY), L19P_YY (io), C16 I/O, VREF 2, L22P_Y (io), D14 I/O, VREF 2, L20P (io), D15 I/O, L22N_Y (io), D16 I/O, VREF 2, L24P_Y (io), E13 I/O, L20N (io), E14 I/O, L23P_Y (io), E15 I/O (D1), L24N_Y (io), E16 I/O, L26P_Y (io), F12 I/O, L21P (io), F13 I/O, L23N_Y (io), F14 I/O (D2), L25P_YY (io), F15 I/O, L26N_Y (io), F16 I/O, VREF 2, L28P_Y (io), G12 I/O, L21N (io), G13 I/O, L25N_YY (io), G14 I/O, L27P (io), G15 I/O (D3), L28N_Y (io), G16 I/O, L30P_YY (io), H13 I/O, L27N (io), H14 I/O, VREF 2, L29N_Y (io), H15 I/O, L29P_Y (io), H16 I/O (IRDY), L30N_YY (io)
part D pins: J13 I/O (TRDY) (io), J14 I/O (D4), L32P_Y (io), J15 I/O, L31N_Y (io), J16 I/O, VREF 3, L31P_Y (io), K12 I/O, L33P (io), K13 I/O, VREF 3, L32N_Y (io), K14 I/O, L35P_YY (io), K15 I/O, L34N_Y (io), K16 I/O, L34P_Y (io), L12 I/O, L33N (io), L13 I/O (D5), L35N_YY (io), L14 I/O (io), L15 I/O, VREF 3, L36N_Y (io), L16 I/O (D6), L36P_Y (io), M13 I/O (io), M14 I/O, L39P (io), M15 I/O, VREF 3, L38N_Y (io), M16 I/O, L38P_Y (io), N14 I/O, L39N (io), N15 I/O, L40N_Y (io), N16 I/O, VREF 3, L40P_Y (io), P16 I/O (D7), L41P_YY (io)
part E pins: M10 I/O, L48P_Y (io), M11 I/O, VREF 4, L45P_YY (io), N9 I/O, L51P_Y (io), N10 I/O, L48N_Y (io), N11 I/O, L45N_YY (io), N12 I/O, L44P_YY (io), P9 I/O, VREF 4, L51N_Y (io), P10 I/O, L49N_Y (io), P11 I/O, L47N_Y (io), P12 I/O, L44N_YY (io), P13 I/O, L43P (io), R9 I/O (DLL), L52P (io), R10 I/O, VREF 4, L50P_Y (io), R11 I/O, L49P_Y (io), R12 I/O, VREF 4, L47P_Y (io), R13 I/O, VREF 4, L43N (io), R14 I/O, L42P_YY (io), T10 I/O, L50N_Y (io), T11 I/O (io), T12 I/O, L46N (io), T13 I/O, L46P (io), T14 I/O, L42N_YY (io)
part F pins: M6 I/O, L55N_Y (io), M7 I/O, VREF 5, L53N_Y (io), N5 I/O, L59N_YY (io), N6 I/O, L57N (io), N7 I/O, L55P_Y (io), N8 I/O, L53P_Y (io), P4 I/O, L61N_YY (io), P5 I/O, L59P_YY (io), P6 I/O, L57P (io), P7 I/O (io), P8 I/O, VREF 5 (io), R4 I/O, L61P_YY (io), R5 I/O, VREF 5, L58N_YY (io), R6 I/O, VREF 5, L56N_Y (io), R7 I/O, L54N_Y (io), R8 I/O (DLL), L52N (io), T3 I/O, VREF 5, L60N_Y (io), T4 I/O, L60P_Y (io), T5 I/O, L58P_YY (io), T6 I/O, L56P_Y (io), T7 I/O, L54P_Y (io)
part G pins: J1 I/O, L71P_Y (io), J2 I/O, VREF 6, L72P_Y (io), J3 I/O, L72N_Y (io), J4 I/O (TRDY) (io), K1 I/O, VREF 6, L71N_Y (io), K2 I/O, L70P_YY (io), K3 I/O, L70N_YY (io), K4 I/O, L68P_YY (io), K5 I/O, L68N_YY (io), L1 I/O, L69P_Y (io), L2 I/O, L69N_Y (io), L3 I/O, L67P_Y (io), L4 I/O, L65P_Y (io), L5 I/O, VREF 6, L65N_Y (io), M1 I/O, L66P_Y (io), M2 I/O, VREF 6, L67N_Y (io), M3 I/O, L64P_YY (io), M4 I/O, L64N_YY (io), N1 I/O, L66N_Y (io), N2 I/O, L63P (io), N3 I/O, VREF 6, L63N (io), P1 I/O, L62P_YY (io), P2 I/O, L62N_YY (io)
part H pins: C1 I/O, VREF 7, L83N (io), C2 I/O, L83P (io), D1 I/O, L82N_YY (io), D2 I/O, L82P_YY (io), D3 I/O (io), E1 I/O, L80N_Y (io), E2 I/O, L80P_Y (io), E3 I/O, VREF 7, L81P_Y (io), E4 I/O, L81N_Y (io), F1 I/O, L78N_YY (io), F2 I/O, L78P_YY (io), F3 I/O, L79N_Y (io), F4 I/O, VREF 7, L79P_Y (io), F5 I/O, L77P (io), G1 I/O, L75N_Y (io), G2 I/O, VREF 7, L75P_Y (io), G3 I/O, L76P_YY (io), G4 I/O, L76N_YY (io), G5 I/O, L77N (io), H1 I/O (IRDY), L73N_YY (io), H2 I/O, L73P_YY (io), H3 I/O, VREF 7, L74N (io), H4 I/O, L74P (io)
part I pins: B8 GCK2, I (in), C8 GCK3, I (in), T8 GCK1, I (in), T9 GCK0, I (in)
part J pins: A2 TCK (in), A15 CCLK (io), B1 TMS (in), B14 TDO (out), B16 DIN (io) "I/O (DIN, D0), L19N_YY", C13 TDI (in), P15 ~{INIT} (io) "I/O (I\N\I\T\), L41N_YY", R1 M1 (in), R3 M2 (in), R16 PROGRAM (in), T2 M0 (in), T15 DONE (io)
part K pins: C3 VCCINT (power), C14 VCCINT (power), D4 VCCINT (power), D13 VCCINT (power), E5 VCCINT (power), E8 VCCO Bank 0 (power), E9 VCCO Bank 1 (power), E12 VCCINT (power), F7 VCCO Bank 0 (power), F8 VCCO Bank 0 (power), F9 VCCO Bank 1 (power), F10 VCCO Bank 1 (power), G6 VCCO Bank 7 (power), G11 VCCO Bank 2 (power), H5 VCCO Bank 7 (power), H6 VCCO Bank 7 (power), H11 VCCO Bank 2 (power), H12 VCCO Bank 2 (power), J5 VCCO Bank 6 (power), J6 VCCO Bank 6 (power), J11 VCCO Bank 3 (power), J12 VCCO Bank 3 (power), K6 VCCO Bank 6 (power), K11 VCCO Bank 3 (power), L7 VCCO Bank 5 (power), L8 VCCO Bank 5 (power), L9 VCCO Bank 4 (power), L10 VCCO Bank 4 (power), M5 VCCINT (power), M8 VCCO Bank 5 (power), M9 VCCO Bank 4 (power), M12 VCCINT (power), N4 VCCINT (power), N13 VCCINT (power), P3 VCCINT (power), P14 VCCINT (power)
part L pins: A1 GND (power), A16 GND (power), B2 GND (power), B15 GND (power), F6 GND (power), F11 GND (power), G7 GND (power), G8 GND (power), G9 GND (power), G10 GND (power), H7 GND (power), H8 GND (power), H9 GND (power), H10 GND (power), J7 GND (power), J8 GND (power), J9 GND (power), J10 GND (power), K7 GND (power), K8 GND (power), K9 GND (power), K10 GND (power), L6 GND (power), L11 GND (power), R2 GND (power), R15 GND (power), T1 GND (power), T16 GND (power)
part A text: BANK 0
part B text: BANK 1
part C text: BANK 2
part D text: BANK 3
part E text: BANK 4
part F text: BANK 5
part G text: BANK 6
part H text: BANK 7

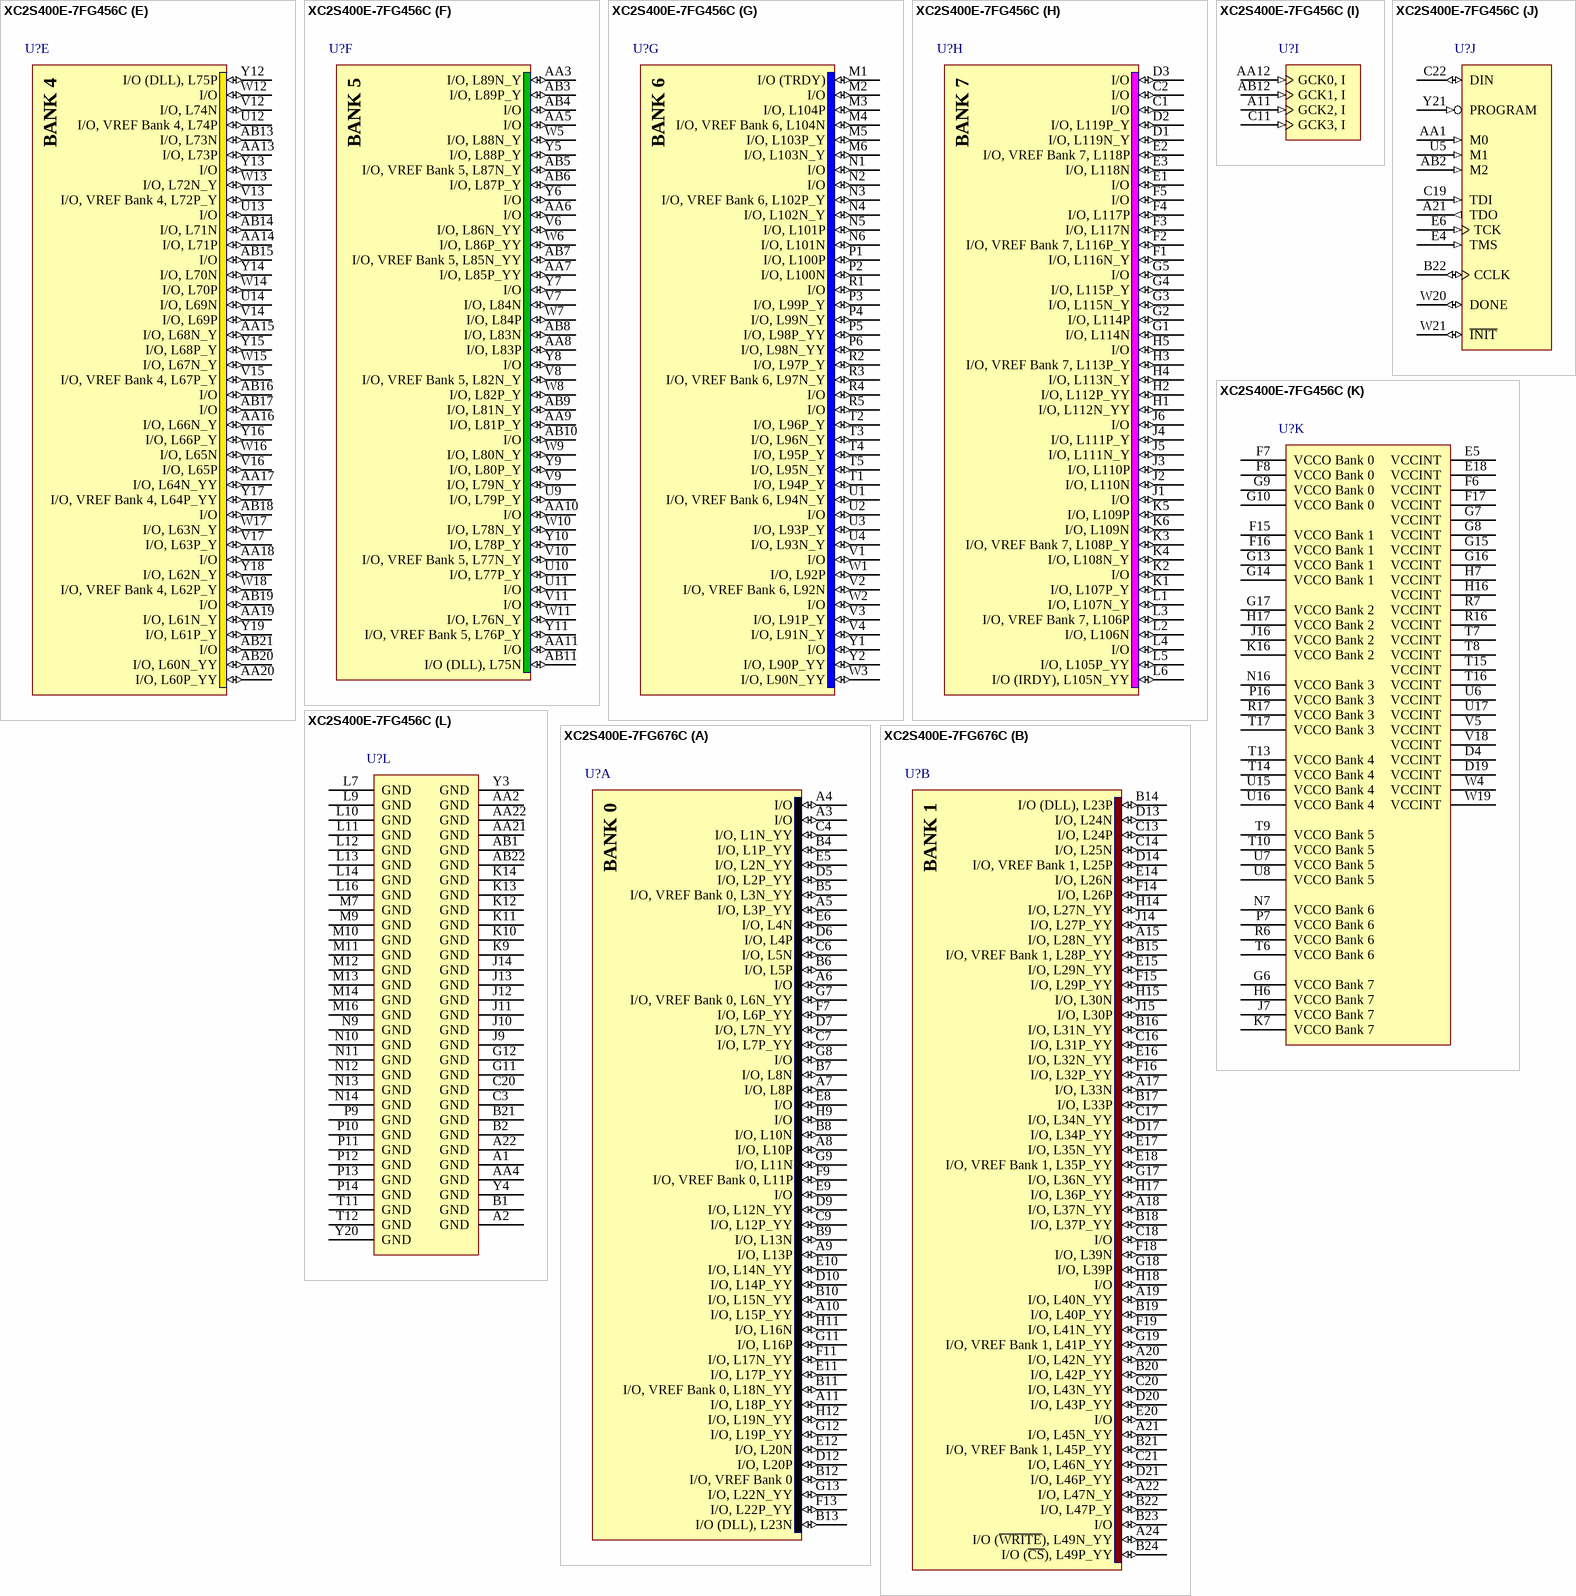
[diagram p91: symbols XC2S400E-7FG456C to XC2S400E-7FG676C]

## XC2S400E-7FG456C
designator U?
Spartan-IIE 1.8V FPGA, 456-Ball FBGA, Higher Performance, Commercial Grade; Published: 17-Jan-2003; LatestRevisionDate: 13-Apr-2006; LatestRevisionNote: IPC-7351 Footprint Added.; DatasheetVersion: 28-Jul-2004; PackageVersion: ver1.2.1, Mar-2005; PackageReference: FG456; Publisher: Altium Limited; PackageDescription: 456-Ball Fine Pitch Ball Grid Array (FG456); Code_JEDEC: MO-151-AAJ-1 (Depopulated); ComponentLink1Description: Manufacturer Link; ComponentLink1URL: http://www.xilinx.com/products/silicon_solutions/fpgas/spartan_series/spartan2e_fpgas/index.htm; ComponentLink2Description: Datasheet; ComponentLink2URL: http://direct.xilinx.com/bvdocs/publications/ds077.pdf
footprint FG456 (BGA, 456-Leads, Body 23x23mm, Pitch 1mm)
3D model XC2S400E-FG456 (456-Ball Fine Pitch Ball Grid Array (FG456))
signal-integrity model XC2S400E_FG456 (Spartan-IIE)
part A pins: A3 I/O, L0P_Y (io), A4 I/O (io), A5 I/O, L2P (io), A6 I/O, L3P_YY (io), A7 I/O (io), A8 I/O, L7P_Y (io), A9 I/O, L10P (io), A10 I/O, L12P (io), B3 I/O, L0N_Y (io), B4 I/O, L1P_Y (io), B5 I/O, L2N (io), B6 I/O, VREF Bank 0, L3N_YY (io), B7 I/O (io), B8 I/O, L7N_Y (io), B9 I/O, L10N (io), B10 I/O, L12N (io), B11 I/O (DLL), L13N (io), C4 I/O (io), C5 I/O, VREF Bank 0, L1N_Y (io), C6 I/O (io), C7 I/O, L5P (io), C8 I/O, L6P_Y (io), C9 I/O, L9P (io), C10 I/O, L11P_Y (io), D5 I/O (io), D6 I/O (io), D7 I/O, L5N (io), D8 I/O, VREF Bank 0, L6N_Y (io), D9 I/O, L9N (io), D10 I/O, VREF Bank 0, L11N_Y (io), D11 I/O (io), E7 I/O, L4N (io), E8 I/O, L4P (io), E9 I/O, L8N (io), E10 I/O (io), E11 I/O (io), F9 I/O, L8P (io), F10 I/O (io), F11 I/O, VREF Bank 0 (io)
part B pins: A12 I/O (DLL), L13P (io), A13 I/O, L16N_Y (io), A14 I/O, L18N_Y (io), A15 I/O, L20N_Y (io), A16 I/O, L22N (io), A17 I/O, L25N_YY (io), A18 I/O, L26N_Y (io), A19 I/O, L27N_Y (io), A20 I/O (~{WRITE}), L28N_YY (io), B12 I/O, L15N (io), B13 I/O, VREF Bank 1, L16P_Y (io), B14 I/O, L18P_Y (io), B15 I/O, L20P_Y (io), B16 I/O, L22P (io), B17 I/O, L25P_YY (io), B18 I/O, VREF Bank 1, L26P_Y (io), B19 I/O, L27P_Y (io), B20 I/O (~{CS}), L28P_YY (io), C12 I/O, L15P (io), C13 I/O, L17N_Y (io), C14 I/O, L19N_Y (io), C15 I/O, L21N_Y (io), C16 I/O, L23N (io), C17 I/O (io), C18 I/O (io), D12 I/O, VREF Bank 1, L14P (io), D13 I/O, L17P_Y (io), D14 I/O, L19P_Y (io), D15 I/O, VREF Bank 1, L21P_Y (io), D16 I/O, L23P (io), D17 I/O (io), D18 I/O (io), E12 I/O, L14N (io), E13 I/O (io), E14 I/O (io), E15 I/O (io), E16 I/O, VREF Bank 1, L24P_YY (io), E17 I/O, L24N_YY (io), F12 I/O (io), F13 I/O (io), F14 I/O (io)
part C pins: C21 I/O (DOUT, BUSY), L29P_YY (io), D20 I/O (io), D21 I/O, VREF Bank 2, L31P (io), D22 I/O, L31N (io), E19 I/O, L30P_Y (io), E20 I/O, L30N_Y (io), E21 I/O (io), E22 I/O, L33N_Y (io), F18 I/O (io), F19 I/O, L32P_Y (io), F20 I/O, L32N_Y (io), F21 I/O, VREF Bank 2, L33P_Y (io), F22 I/O (io), G18 I/O, L34P (io), G19 I/O, L34N (io), G20 I/O, L35P_Y (io), G21 I/O, L35N_Y (io), G22 I/O (io), H18 I/O, VREF Bank 2, L36P_Y (io), H19 I/O (D1), L36N_Y (io), H20 I/O (D2), L37P_Y (io), H21 I/O, L37N_Y (io), H22 I/O (io), J17 I/O, L38P_Y (io), J18 I/O, L38N_Y (io), J19 I/O, L39P (io), J20 I/O, L39N (io), J21 I/O, L40P (io), J22 I/O, L40N (io), K17 I/O, L41P_Y (io), K18 I/O, VREF Bank 2, L41N_Y (io), K19 I/O (D3) (io), K20 I/O (io), K21 I/O, L42P_Y (io), K22 I/O, L42N_Y (io), L17 I/O, VREF Bank 2, L43P (io), L18 I/O, L43N (io), L19 I/O (io), L20 I/O, L44P_YY (io), L21 I/O (IRDY), L44N_YY (io)
part D pins: L22 I/O (TRDY) (io), M17 I/O (io), M18 I/O, VREF Bank 3, L45N (io), M19 I/O, L45P (io), M20 I/O, L46N_Y (io), M21 I/O, L46P_Y (io), M22 I/O (io), N17 I/O (D4), L47P_Y (io), N18 I/O, VREF Bank 3, L47N_Y (io), N19 I/O, L48N (io), N20 I/O, L48P (io), N21 I/O, L49P (io), N22 I/O, L49N (io), P17 I/O (io), P18 I/O, L50N_Y (io), P19 I/O, L50P_Y (io), P20 I/O (io), P21 I/O, L51P_YY (io), P22 I/O (D5), L51N_YY (io), R18 I/O, VREF Bank 3, L52N_Y (io), R19 I/O (D6), L52P_Y (io), R20 I/O (io), R21 I/O, L53N (io), R22 I/O, L53P (io), T18 I/O, L54N_Y (io), T19 I/O, L54P_Y (io), T20 I/O (io), T21 I/O, VREF Bank 3, L55N_Y (io), T22 I/O, L55P_Y (io), U18 I/O, L56N (io), U19 I/O, L56P (io), U20 I/O (io), U21 I/O (io), U22 I/O, L57P (io), V19 I/O, L58N_Y (io), V20 I/O, L58P_Y (io), V21 I/O (io), V22 I/O, VREF Bank 3, L57N (io), W22 I/O (io), Y22 I/O (D7), L59P_YY (io)
part E pins: AA13 I/O, L73P (io), AA14 I/O, L71P (io), AA15 I/O, L68N_Y (io), AA16 I/O, L66N_Y (io), AA17 I/O, L64N_YY (io), AA18 I/O (io), AA19 I/O, L61N_Y (io), AA20 I/O, L60P_YY (io), AB13 I/O, L73N (io), AB14 I/O, L71N (io), AB15 I/O (io), AB16 I/O (io), AB17 I/O (io), AB18 I/O (io), AB19 I/O (io), AB20 I/O, L60N_YY (io), AB21 I/O (io), U12 I/O, VREF Bank 4, L74P (io), U13 I/O (io), U14 I/O, L69N (io), V12 I/O, L74N (io), V13 I/O, VREF Bank 4, L72P_Y (io), V14 I/O, L69P (io), V15 I/O, VREF Bank 4, L67P_Y (io), V16 I/O, L65P (io), V17 I/O, L63P_Y (io), W12 I/O (io), W13 I/O, L72N_Y (io), W14 I/O, L70P (io), W15 I/O, L67N_Y (io), W16 I/O, L65N (io), W17 I/O, L63N_Y (io), W18 I/O, VREF Bank 4, L62P_Y (io), Y12 I/O (DLL), L75P (io), Y13 I/O (io), Y14 I/O, L70N (io), Y15 I/O, L68P_Y (io), Y16 I/O, L66P_Y (io), Y17 I/O, VREF Bank 4, L64P_YY (io), Y18 I/O, L62N_Y (io), Y19 I/O, L61P_Y (io)
part F pins: AA3 I/O, L89N_Y (io), AA5 I/O (io), AA6 I/O (io), AA7 I/O, L85P_YY (io), AA8 I/O, L83P (io), AA9 I/O, L81P_Y (io), AA10 I/O (io), AA11 I/O (io), AB3 I/O, L89P_Y (io), AB4 I/O (io), AB5 I/O, VREF Bank 5, L87N_Y (io), AB6 I/O, L87P_Y (io), AB7 I/O, VREF Bank 5, L85N_YY (io), AB8 I/O, L83N (io), AB9 I/O, L81N_Y (io), AB10 I/O (io), AB11 I/O (DLL), L75N (io), U9 I/O, L79P_Y (io), U10 I/O, L77P_Y (io), U11 I/O (io), V6 I/O, L86N_YY (io), V7 I/O, L84N (io), V8 I/O, VREF Bank 5, L82N_Y (io), V9 I/O, L79N_Y (io), V10 I/O, VREF Bank 5, L77N_Y (io), V11 I/O (io), W5 I/O, L88N_Y (io), W6 I/O, L86P_YY (io), W7 I/O, L84P (io), W8 I/O, L82P_Y (io), W9 I/O, L80N_Y (io), W10 I/O, L78N_Y (io), W11 I/O, L76N_Y (io), Y5 I/O, L88P_Y (io), Y6 I/O (io), Y7 I/O (io), Y8 I/O (io), Y9 I/O, L80P_Y (io), Y10 I/O, L78P_Y (io), Y11 I/O, VREF Bank 5, L76P_Y (io)
part G pins: M1 I/O (TRDY) (io), M2 I/O (io), M3 I/O, L104P (io), M4 I/O, VREF Bank 6, L104N (io), M5 I/O, L103P_Y (io), M6 I/O, L103N_Y (io), N1 I/O (io), N2 I/O (io), N3 I/O, VREF Bank 6, L102P_Y (io), N4 I/O, L102N_Y (io), N5 I/O, L101P (io), N6 I/O, L101N (io), P1 I/O, L100P (io), P2 I/O, L100N (io), P3 I/O, L99P_Y (io), P4 I/O, L99N_Y (io), P5 I/O, L98P_YY (io), P6 I/O, L98N_YY (io), R1 I/O (io), R2 I/O, L97P_Y (io), R3 I/O, VREF Bank 6, L97N_Y (io), R4 I/O (io), R5 I/O (io), T1 I/O, L94P_Y (io), T2 I/O, L96P_Y (io), T3 I/O, L96N_Y (io), T4 I/O, L95P_Y (io), T5 I/O, L95N_Y (io), U1 I/O, VREF Bank 6, L94N_Y (io), U2 I/O (io), U3 I/O, L93P_Y (io), U4 I/O, L93N_Y (io), V1 I/O (io), V2 I/O, VREF Bank 6, L92N (io), V3 I/O, L91P_Y (io), V4 I/O, L91N_Y (io), W1 I/O, L92P (io), W2 I/O (io), W3 I/O, L90N_YY (io), Y1 I/O (io), Y2 I/O, L90P_YY (io)
part H pins: C1 I/O (io), C2 I/O (io), D1 I/O, L119N_Y (io), D2 I/O, L119P_Y (io), D3 I/O (io), E1 I/O (io), E2 I/O, VREF Bank 7, L118P (io), E3 I/O, L118N (io), F1 I/O, L116N_Y (io), F2 I/O, VREF Bank 7, L116P_Y (io), F3 I/O, L117N (io), F4 I/O, L117P (io), F5 I/O (io), G1 I/O, L114N (io), G2 I/O, L114P (io), G3 I/O, L115N_Y (io), G4 I/O, L115P_Y (io), G5 I/O (io), H1 I/O, L112N_YY (io), H2 I/O, L112P_YY (io), H3 I/O, VREF Bank 7, L113P_Y (io), H4 I/O, L113N_Y (io), H5 I/O (io), J1 I/O (io), J2 I/O, L110N (io), J3 I/O, L110P (io), J4 I/O, L111P_Y (io), J5 I/O, L111N_Y (io), J6 I/O (io), K1 I/O, L107P_Y (io), K2 I/O (io), K3 I/O, VREF Bank 7, L108P_Y (io), K4 I/O, L108N_Y (io), K5 I/O, L109P (io), K6 I/O, L109N (io), L1 I/O, L107N_Y (io), L2 I/O, L106N (io), L3 I/O, VREF Bank 7, L106P (io), L4 I/O (io), L5 I/O, L105P_YY (io), L6 I/O (IRDY), L105N_YY (io)
part I pins: A11 GCK2, I (in), AA12 GCK0, I (in), AB12 GCK1, I (in), C11 GCK3, I (in)
part J pins: A21 TDO (out), AA1 M0 (in), AB2 M2 (in), B22 CCLK (io), C19 TDI (in), C22 DIN (io) "I/O (DIN, D0), L29N_YY", E4 TMS (in), E6 TCK (in), U5 M1 (in), W20 DONE (io), W21 ~{INIT} (io) "I/O (I\N\I\T\), L59N_YY", Y21 PROGRAM (in)
part K pins: D4 VCCINT (power), D19 VCCINT (power), E5 VCCINT (power), E18 VCCINT (power), F6 VCCINT (power), F7 VCCO Bank 0 (power), F8 VCCO Bank 0 (power), F15 VCCO Bank 1 (power), F16 VCCO Bank 1 (power), F17 VCCINT (power), G6 VCCO Bank 7 (power), G7 VCCINT (power), G8 VCCINT (power), G9 VCCO Bank 0 (power), G10 VCCO Bank 0 (power), G13 VCCO Bank 1 (power), G14 VCCO Bank 1 (power), G15 VCCINT (power), G16 VCCINT (power), G17 VCCO Bank 2 (power), H6 VCCO Bank 7 (power), H7 VCCINT (power), H16 VCCINT (power), H17 VCCO Bank 2 (power), J7 VCCO Bank 7 (power), J16 VCCO Bank 2 (power), K7 VCCO Bank 7 (power), K16 VCCO Bank 2 (power), N7 VCCO Bank 6 (power), N16 VCCO Bank 3 (power), P7 VCCO Bank 6 (power), P16 VCCO Bank 3 (power), R6 VCCO Bank 6 (power), R7 VCCINT (power), R16 VCCINT (power), R17 VCCO Bank 3 (power), T6 VCCO Bank 6 (power), T7 VCCINT (power), T8 VCCINT (power), T9 VCCO Bank 5 (power), T10 VCCO Bank 5 (power), T13 VCCO Bank 4 (power), T14 VCCO Bank 4 (power), T15 VCCINT (power), T16 VCCINT (power), T17 VCCO Bank 3 (power), U6 VCCINT (power), U7 VCCO Bank 5 (power), U8 VCCO Bank 5 (power), U15 VCCO Bank 4 (power), U16 VCCO Bank 4 (power), U17 VCCINT (power), V5 VCCINT (power), V18 VCCINT (power), W4 VCCINT (power), W19 VCCINT (power)
part L pins: A1 GND (power), A2 GND (power), A22 GND (power), AA2 GND (power), AA4 GND (power), AA21 GND (power), AA22 GND (power), AB1 GND (power), AB22 GND (power), B1 GND (power), B2 GND (power), B21 GND (power), C3 GND (power), C20 GND (power), G11 GND (power), G12 GND (power), J9 GND (power), J10 GND (power), J11 GND (power), J12 GND (power), J13 GND (power), J14 GND (power), K9 GND (power), K10 GND (power), K11 GND (power), K12 GND (power), K13 GND (power), K14 GND (power), L7 GND (power), L9 GND (power), L10 GND (power), L11 GND (power), L12 GND (power), L13 GND (power), L14 GND (power), L16 GND (power), M7 GND (power), M9 GND (power), M10 GND (power), M11 GND (power), M12 GND (power), M13 GND (power), M14 GND (power), M16 GND (power), N9 GND (power), N10 GND (power), N11 GND (power), N12 GND (power), N13 GND (power), N14 GND (power), P9 GND (power), P10 GND (power), P11 GND (power), P12 GND (power), P13 GND (power), P14 GND (power), T11 GND (power), T12 GND (power), Y3 GND (power), Y4 GND (power), Y20 GND (power)
part A text: BANK 0
part B text: BANK 1
part C text: BANK 2
part D text: BANK 3
part E text: BANK 4
part F text: BANK 5
part G text: BANK 6
part H text: BANK 7

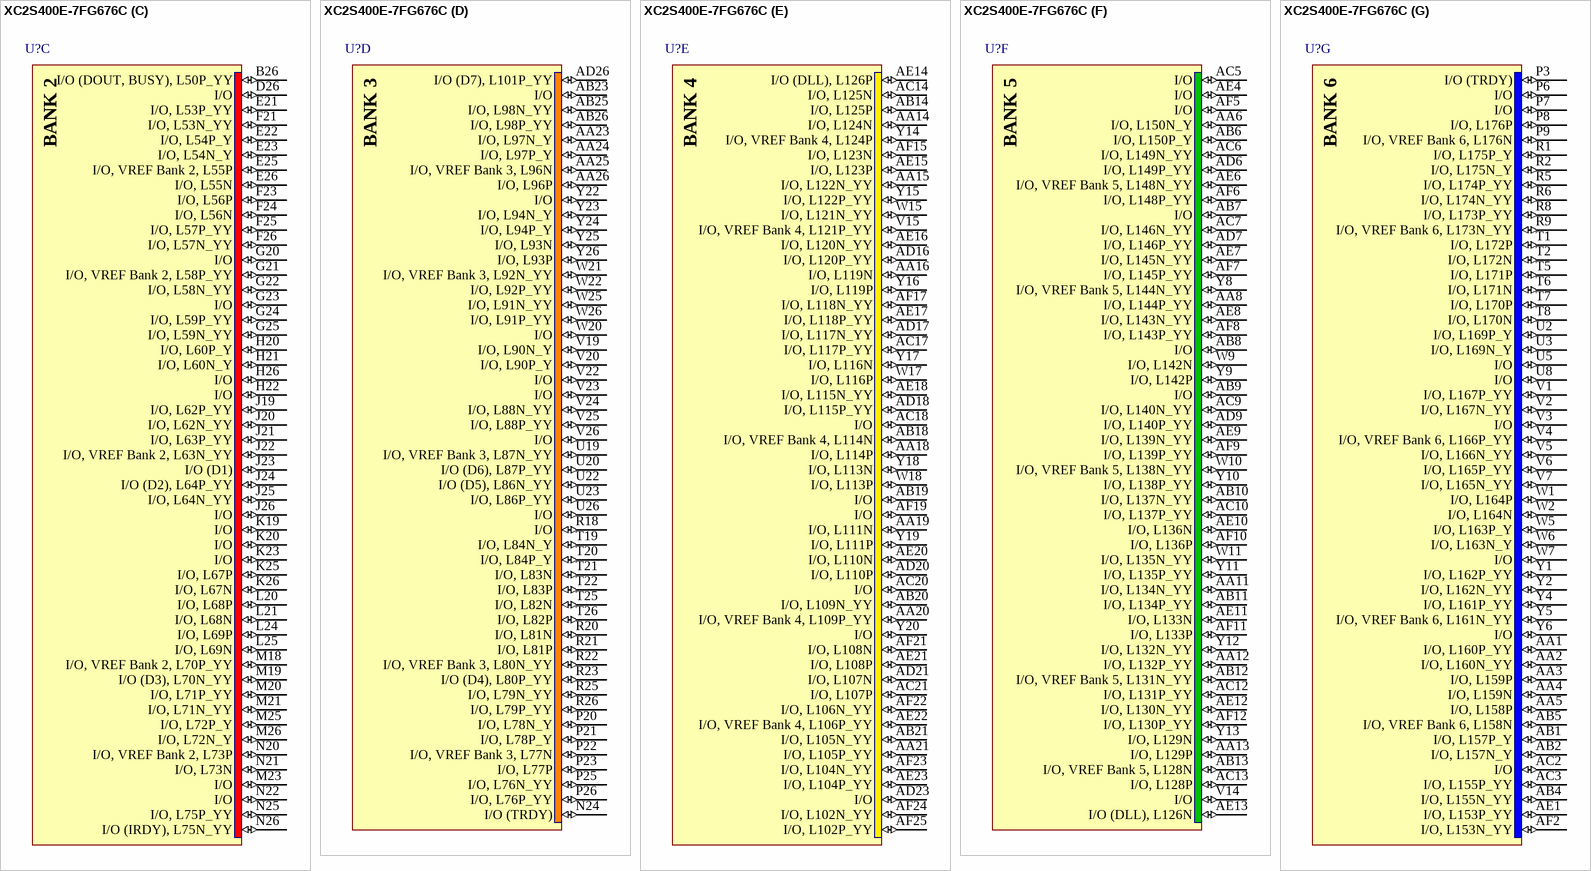
[diagram p92: symbol XC2S400E-7FG676C]

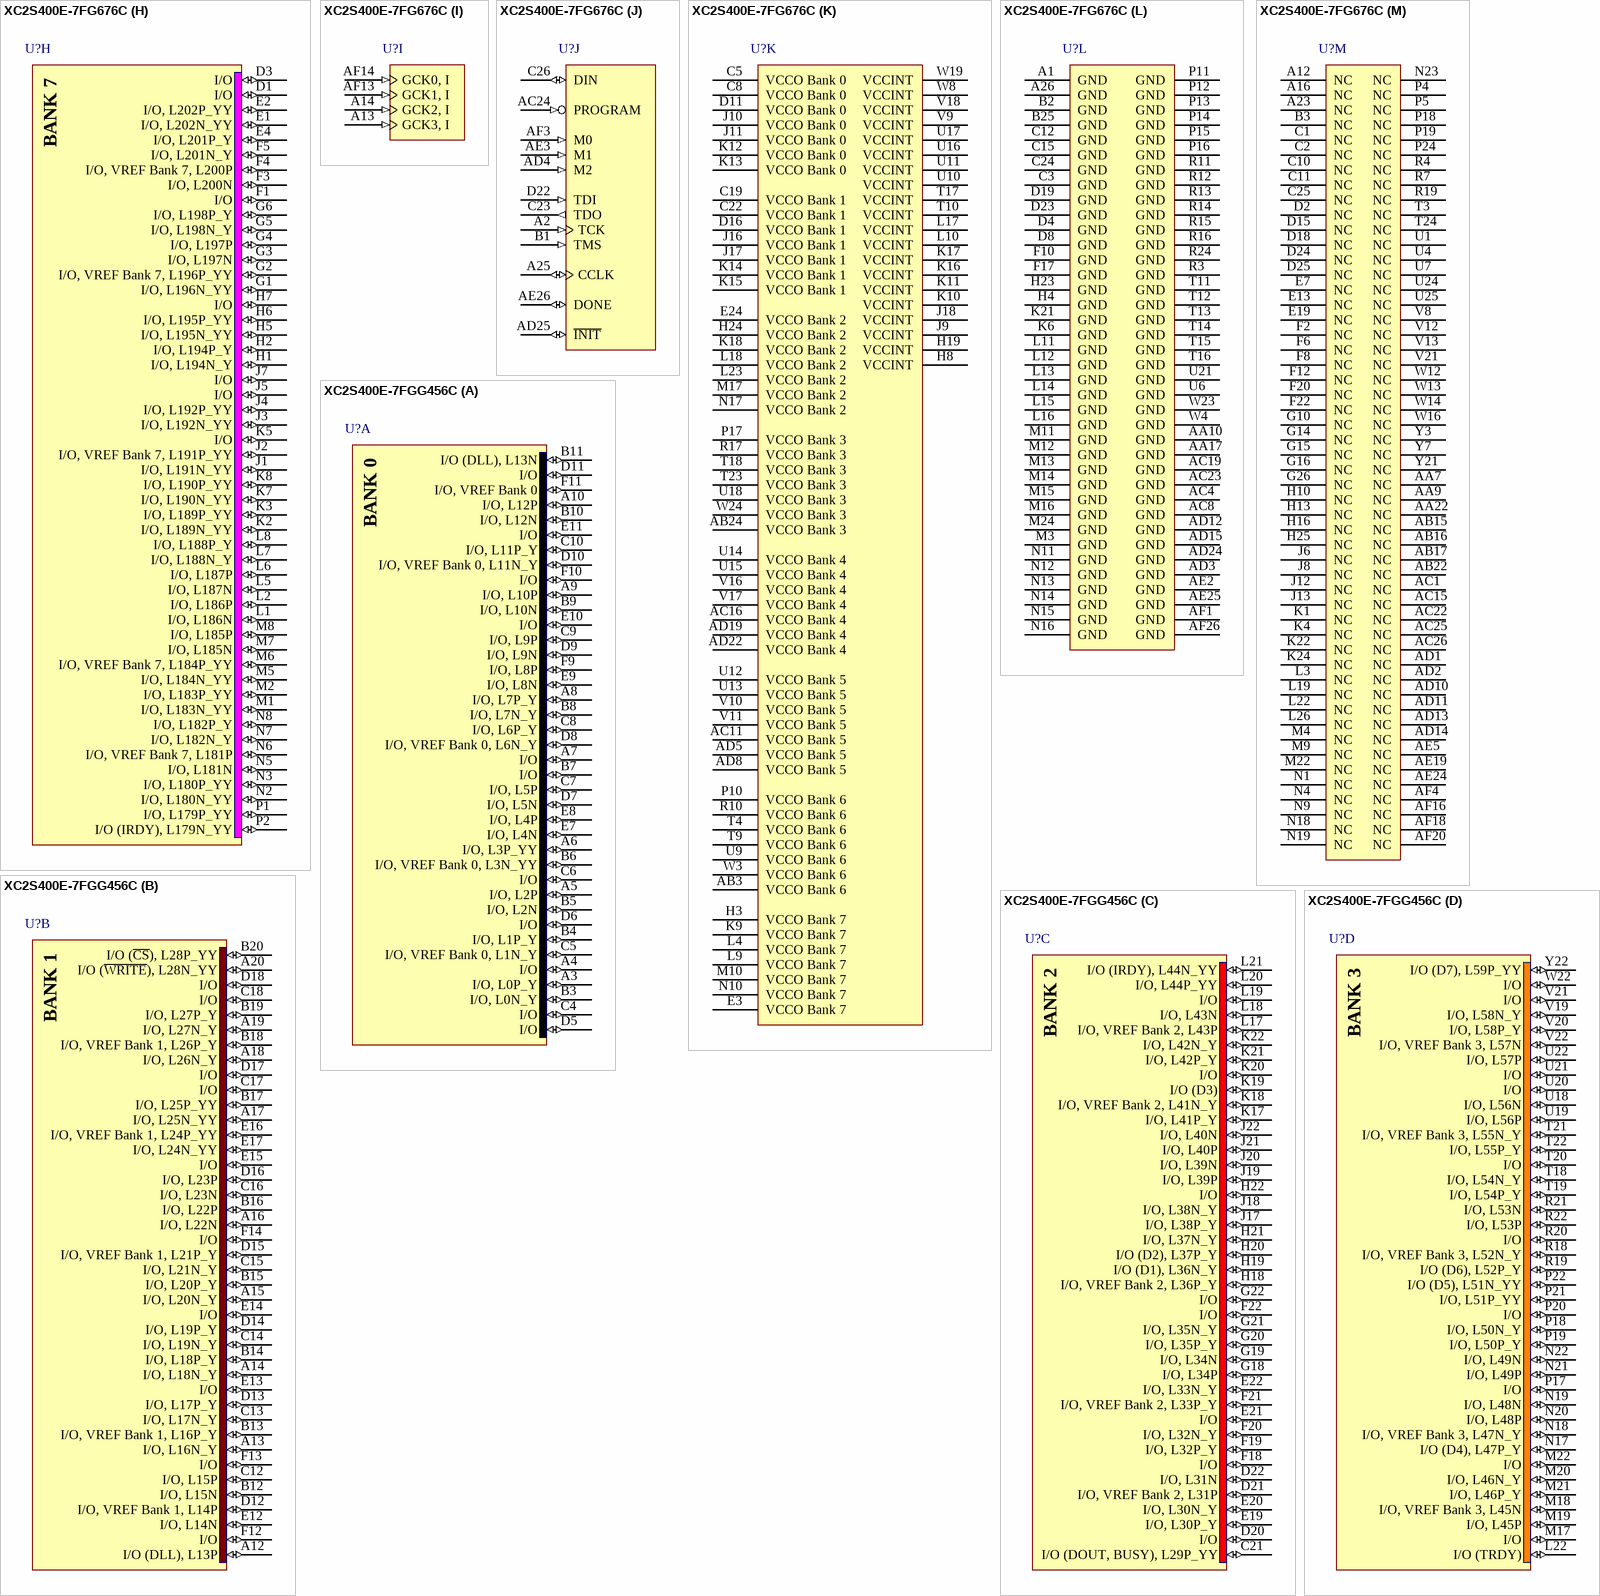
[diagram p93: symbols XC2S400E-7FG676C to XC2S400E-7FGG456C]